# Altium schematic symbol library EspPov.SchLib: 8 symbols
Pins are listed as number, name and electrical type; pins without a type are passive.

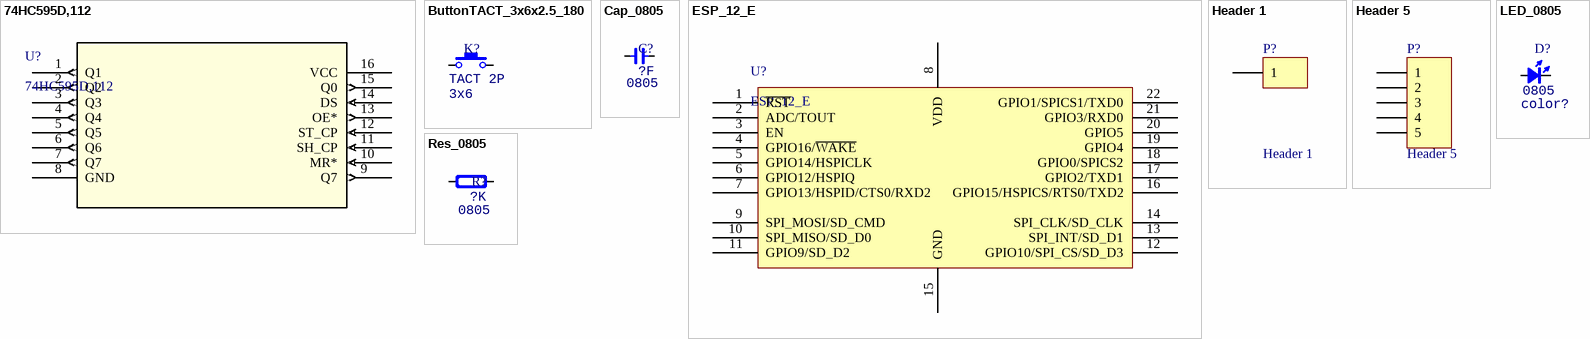
[diagram p0: symbols 74HC595D,112 to Res_0805]

## 74HC595D,112
designator U?
No Description Available; Vendor: Nexperia; SourceLibrary: Nexperia_2018-05-2018; Manufacturer_Part_Number: 74HC595D,112; Copyright: Copyright (C) 2016 Accelerated Designs. All rights reserved; RefDes: RefDes; Type: DEV
footprint SOT109-1_NEX
pins: 1 Q1 (out), 2 Q2 (out), 3 Q3 (out), 4 Q4 (out), 5 Q5 (out), 6 Q6 (out), 7 Q7 (out), 8 GND (power), 9 Q7 (out), 10 MR* (in), 11 SH_CP (in), 12 ST_CP (in), 13 OE* (out), 14 DS (in), 15 Q0 (out), 16 VCC (power)

## ButtonTACT_3x6x2.5_180
designator K?, comment value 3x6  (hidden comment: TACT 2P)
Button; type: TACT 2P
footprint ButtonTACT_3x6x2.5_180
pins: 1, 2

## Cap_0805
designator C?, comment value ?F  Type: 0805  (hidden comment: C0805)
Capacitor; Specification: X7R 50V; Manufacturer: *
footprint CAP_0805
pins: 1, 2

## ESP_12_E
designator U?
ESP-12 Wi-Fi Module by AI-Thinker; IC: ESP8266-EX; Vendor: Ai-thinker
footprint ESP_12_E (ESP-12 Wi-Fi Module by AI-Thinker)
footprint ESP_12_E_L (ESP-12 Wi-Fi Module by AI-Thinker)
pins: 1 ~{RST} "Reset", 2 ADC/TOUT "ADC Input Or TOUT Output", 3 EN "Chip enable", 4 GPIO16/~{WAKE} "GPIO16 or Deep-Sleep Wakeup", 5 GPIO14/HSPICLK "GPIO14 or SPI CLK", 6 GPIO12/HSPIQ "GPIO12 or SPIQ", 7 GPIO13/HSPID/CTS0/RXD2 "GPIO13 or SPID", 8 VDD "Power supply", 9 SPI_MOSI/SD_CMD "GPIO14 or SPI CLK", 10 SPI_MISO/SD_D0 "GPIO12 or SPIQ", 11 GPIO9/SD_D2 "GPIO13 or SPID", 12 GPIO10/SPI_CS/SD_D3 "GPIO15 or SPICS", 13 SPI_INT/SD_D1 "GPIO2 or TX", 14 SPI_CLK/SD_CLK "GPIO0 or SPICS2", 15 GND "Power ground", 16 GPIO15/HSPICS/RTS0/TXD2 "GPIO15 or SPICS", 17 GPIO2/TXD1 "GPIO2 or TX", 18 GPIO0/SPICS2 "GPIO0 or SPICS2", 19 GPIO4 "GPIO5", 20 GPIO5 "GPIO4", 21 GPIO3/RXD0 "GPIO3 or UART RXD", 22 GPIO1/SPICS1/TXD0 "GPIO1 or UART TXD"

## Header 1
designator P?
Header, 1-Pin; LatestRevisionDate: 17-Jul-2002; LatestRevisionNote: Re-released for DXP Platform.; Publisher: Altium Limited
signal-integrity model Connector
footprint HDR1X1_SOP (Footprint not found)
pins: 1

## Header 5
designator P?
Header, 5-Pin; LatestRevisionDate: 17-Jul-2002; LatestRevisionNote: Re-released for DXP Platform.; Publisher: Altium Limited
footprint HDR1X5 (Connector; Header; 5 Position)
signal-integrity model Connector
footprint HDR1X5_SOP
pins: 1, 2, 3, 4, 5

## LED_0805
designator D?, comment Type: 0805  (hidden comment: color?)
LED; Value: color?
footprint LED_0805_GREEN
footprint LED_0805_BLUE
footprint LED_0805_RED
footprint LED_0805_ORANGE
footprint LED_0805_YELLOW
pins: 1 A, 2 K

## Res_0805
designator R?, comment value ?K  Type: 0805  (hidden comment: R0805)
Resistor; Specification: ±5%; Manufacturer: *
footprint RES_0805
pins: 1, 2